# EAGLE library part PSMN039 (library lfpak.mosfet)
N-channel LFPAK 100 V 39.5 mΩ standard level MOSFET PSMN039-100YS General description Standard level N-channel MOSFET in LFPAK package qualified to 175 °C. This product is designed and qualified for use in a wide range of industrial, communications and domestic equipment. Features and benefits - Advanced TrenchMOS provides low RDSon and low gate charge - High efficiency gains in switching power converters - Improved mechanical and thermal characteristics - LFPAK provides maximum power density in a Power SO8 package Applications - DC-to-DC converters - Lithium-ion battery protection - Load switching - Motor control - Server power supplies Symbol Parameter Conditions Min Typ Max Unit VDS drain-source voltage Tj ≥ 25 °C; Tj ≤ 175 °C - - 100 V ID drain current Tmb = 25 °C; VGS = 10 V; - - 28.1 A Ptot total powerdissipation Tmb = 25 °C; - - 74 W Tj junction temperature -55 - 175 °C EDS(AL)S non-repetitive drain-source avalanche energy VGS = 10 V; Tj(init) = 25 °C; ID = 28.1 A; Vsup ≤ 100 V; unclamped; RGS = 50 Ω - - 42 mJ QGD gate-drain charge VGS = 10 V; ID = 15 A; VDS = 50 V; - 8 - nC QG(tot) total gate charge - 23 - nC
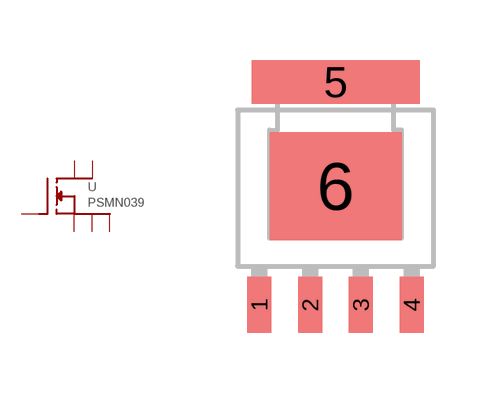
[diagram p10: symbol with the pads of LFPAC; footprint LFPAC]

Designator prefix -

## PSMN039LFPAC (MPN: PSMN039-100YS; OC_FARNELL: 1845636; PACKAGE: LFPAC; SUPPLIER: NXP)  [LFPAC]
1  S1
2  S2
3  S3
4  G
5  D1
6  D2

## Footprint LFPAC (pad centres in mm)
smd 0.6 x 1.4: 1 -1.905,-2.945; 2 -0.635,-2.945; 3 0.635,-2.945; 4 1.905,-2.945
smd 4.2 x 1.1: 5 0,2.625
smd 3.3 x 2.7: 6 0,0.025